# Altium schematic symbol library SCH - CONNECTORS - WURTH - 7462810.SchLib: 1 symbol
Pins are listed as number, name and electrical type; pins without a type are passive.

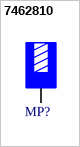
[diagram p0: symbol 7462810]

## 7462810
designator MP?, comment M3 x 4mm  (value not drawn)
WP-BUFU REDCUBE PRESS-FIT with internal thread, full plain, L5W5H7mm, M3 x 4mm, 70A; Manufacturer Part Number: 7462810; Manufacturer: Wurth Elektronik; Surface: Tin; ComponentLink1Description: Website Link; ComponentLink1URL: https://www.we-online.com/redexpert/article/7462810?ad; ComponentLink2Description: Datasheet Link; ComponentLink2URL: https://www.we-online.com/redexpert/spec/7462810?ad; Category: REDCUBE PRESS-FIT; Match Code: WP-BUFU; Mount: Press Fit; Operating Temperature Max: 150°C; Operating Temperature Min: -55°C; Packaging: Bulk; Length: 5mm; Width: 5mm; Height: 7mm; Material: Brass; Number of Pins: 4; Rated Current: 70A; Thread Length: 4mm; Thread Size: M3
footprint 7462810_chemical surface
footprint 7462810_HAL
pins: 1